# Altium footprint library MDBU017A.PcbLib: 30 footprints (part 2 of 2)
Each footprint in its own frame and in the unit in brackets; x right, y up, seen from the top. Pads: shape width x height; smd on the part's side, far side on the other; paste and mask are expansions set on the pad; w line width, h text height; cw(c..) or ccw(c..) is an arc to the next point about the centre after c.
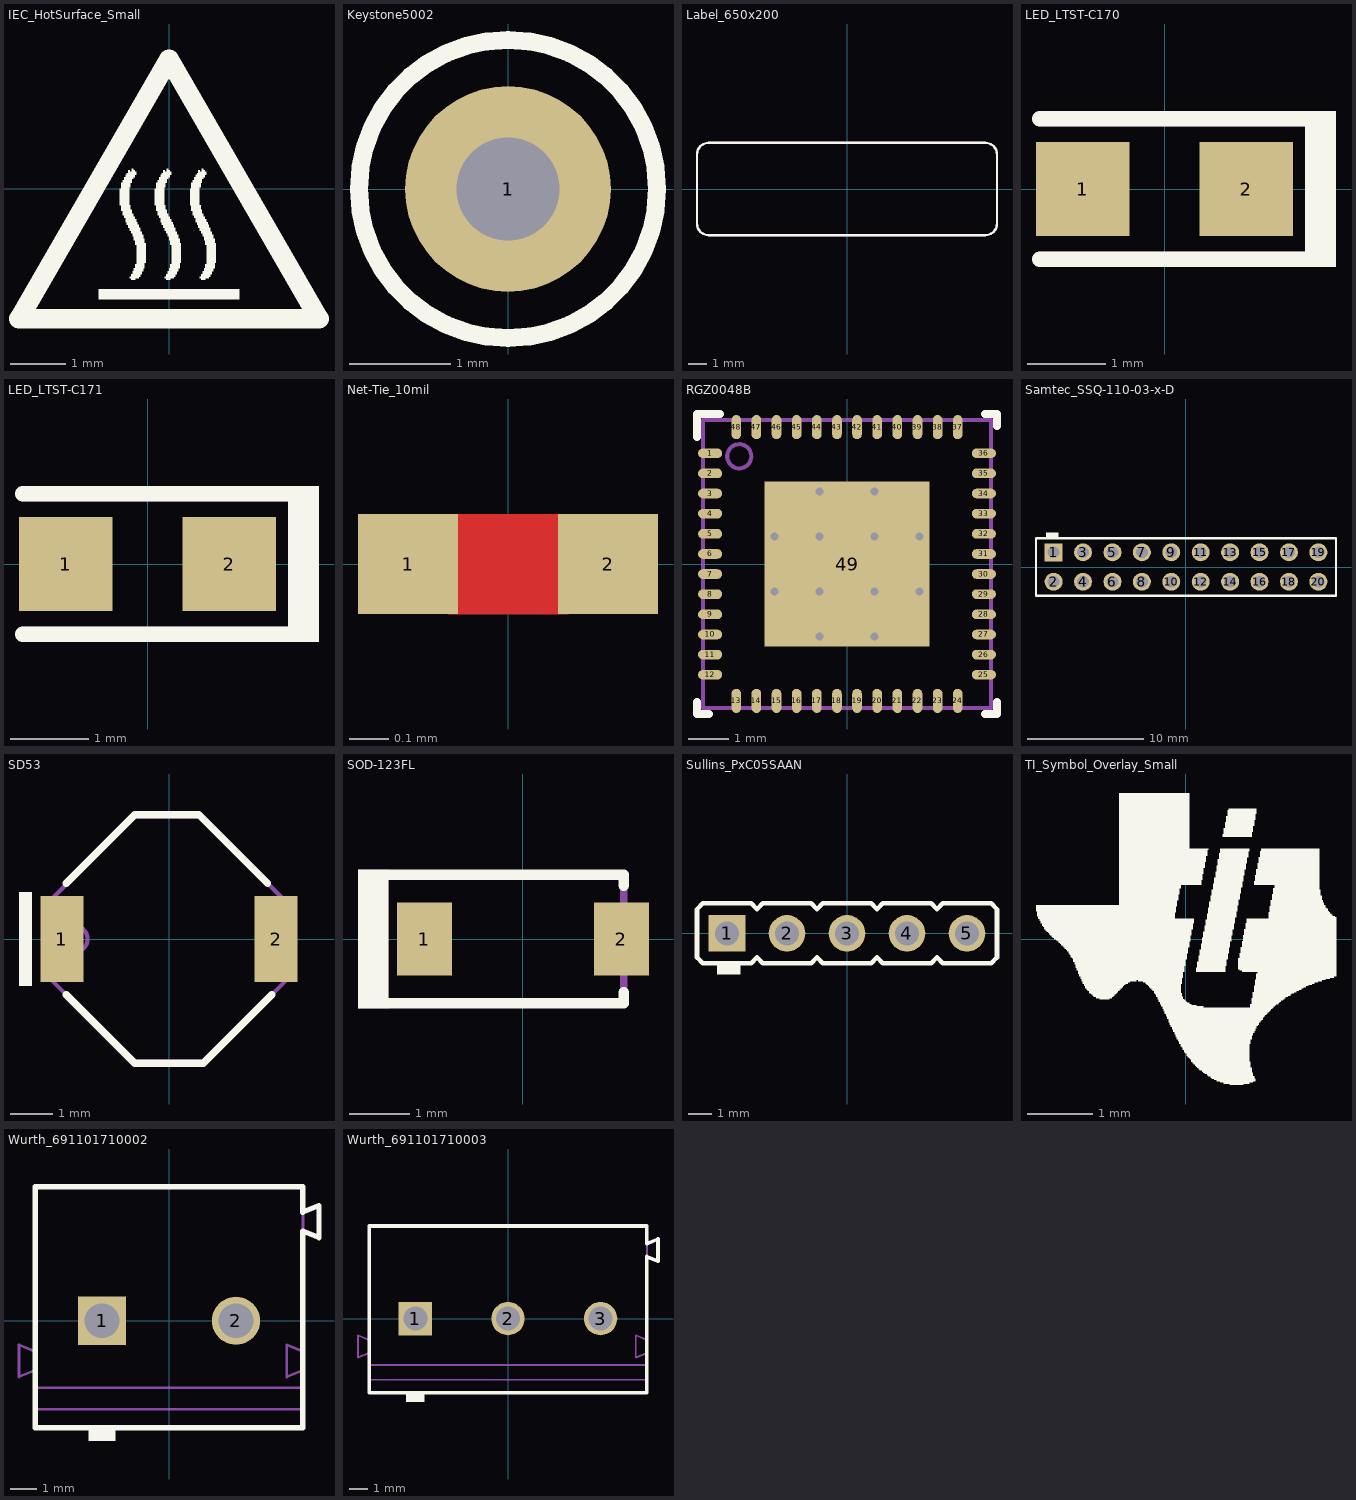
[diagram p1: the footprints below, top view; thin cyan lines are the x and y axes]

## IEC_HotSurface_Small [mm]
Top Overlay:
  drawing of 10 lines, arcs and shapes, not listed

## Keystone5002 [mil]
pads (1):
  round 80 hole 40: 1(0,0)
Top Overlay:
  circle w7: c0,0 r58
Mechanical 5:
  circle w5: c0,0 r58.31
  text ".Designator" at -45,-10 h30
3D body "Keystone_5002.stp": height 181.97, standoff -118.11, extent -49,-49 49.04,49.23

## Label_650x200 [mil]
pads (1):
  round 1 on Mech13: 0(0,0)
Top Overlay:
  lines w5: -325,-75 ccw(c-300,-75) -300,-100 300,-100 ccw(c300,-75) 325,-75 325,75 ccw(c300,75) 300,100 -300,100 ccw(c-300,75) -325,75 -325,-75
Mechanical 5:
  lines w5: -325,-75 ccw(c-300,-75) -300,-100 300,-100 ccw(c300,-75) 325,-75 325,75 ccw(c300,75) 300,100 -300,100 ccw(c-300,75) -325,75 -325,-75
  text ".Designator" at -60,-20 h40
3D body: height 1, standoff 0, extent -325.02,-100.02 325.02,100.02

## LED_LTST-C170 [mm]
pads (2):
  rect 1.2x1.2 smd: 1(-1.05,0) 2(1.05,0)
Top Overlay:
  rectangle: 1.8,-1 2.2,1
  lines w0.2: -1.6,-0.9 2.1,-0.9 ; -1.6,0.9 2.1,0.9
Mechanical 5:
  rectangle: 1.8,-1 2.2,1
  lines w0.2: -1.6,-0.9 2.1,-0.9 ; -1.6,0.9 2.1,0.9
  text ".Designator" at -1.4,-0.4 h0.76
3D body: height 0.5, standoff 0, extent -1.05,-0.675 1.05,0.675
3D body: height 1.1, standoff 0.5, extent -0.699,-0.624 0.699,0.624

## LED_LTST-C171 [mm]
pads (2):
  rect 1.2x1.2 smd: 1(-1.05,0) 2(1.05,0)
Top Overlay:
  rectangle: 1.8,-1 2.2,1
  lines w0.2: -1.6,-0.9 2.1,-0.9 ; -1.6,0.9 2.1,0.9
Mechanical 5:
  rectangle: 1.8,-1 2.2,1
  lines w0.2: -1.6,-0.9 2.1,-0.9 ; -1.6,0.9 2.1,0.9
  text ".Designator" at -1.4,-0.4 h0.76
3D body: height 0.3, standoff 0, extent -1.05,-0.675 1.05,0.675
3D body: height 0.8, standoff 0.3, extent -0.699,-0.624 0.699,0.624

## Net-Tie_10mil [mil]
pads (2):
  rect 10x10 smd paste-5 mask-5: 1(-10,0) 2(10,0)
Top Layer:
  region: -6,5 6,5 6,-5 -6,-5

## RGZ0048B [mm]
pads (49):
  oval 0.6x0.24 smd: 1(-3.4,2.75) 2(-3.4,2.25) 3(-3.4,1.75) 4(-3.4,1.25) 5(-3.4,0.75) 6(-3.4,0.25) 7(-3.4,-0.25) 8(-3.4,-0.75) 9(-3.4,-1.25) 10(-3.4,-1.75) 11(-3.4,-2.25) 12(-3.4,-2.75) 25(3.4,-2.75) 26(3.4,-2.25) 27(3.4,-1.75) 28(3.4,-1.25) 29(3.4,-0.75) 30(3.4,-0.25) 31(3.4,0.25) 32(3.4,0.75) 33(3.4,1.25) 34(3.4,1.75) 35(3.4,2.25) 36(3.4,2.75)
  oval 0.24x0.6 smd: 13(-2.75,-3.4) 14(-2.25,-3.4) 15(-1.75,-3.4) 16(-1.25,-3.4) 17(-0.75,-3.4) 18(-0.25,-3.4) 19(0.25,-3.4) 20(0.75,-3.4) 21(1.25,-3.4) 22(1.75,-3.4) 23(2.25,-3.4) 24(2.75,-3.4) 37(2.75,3.4) 38(2.25,3.4) 39(1.75,3.4) 40(1.25,3.4) 41(0.75,3.4) 42(0.25,3.4) 43(-0.25,3.4) 44(-0.75,3.4) 45(-1.25,3.4) 46(-1.75,3.4) 47(-2.25,3.4) 48(-2.75,3.4)
  rect 4.1x4.1 smd paste-2.575: 49(0,0)
via 0.679,0.679 diameter 0.5 hole 0.2
via 1.8,0.679 diameter 0.5 hole 0.2
via 0.679,1.8 diameter 0.5 hole 0.2
via 0.679,-1.8 diameter 0.5 hole 0.2
via 1.8,-0.679 diameter 0.5 hole 0.2
via 0.679,-0.679 diameter 0.5 hole 0.2
via -0.679,-1.8 diameter 0.5 hole 0.2
via -1.8,-0.679 diameter 0.5 hole 0.2
via -0.679,-0.679 diameter 0.5 hole 0.2
via -0.679,1.8 diameter 0.5 hole 0.2
via -1.8,0.679 diameter 0.5 hole 0.2
via -0.679,0.679 diameter 0.5 hole 0.2
Top Overlay:
  lines w0.2: -3.725,-3.425 -3.725,-3.725 -3.425,-3.725 ; -3.725,3.15 -3.725,3.725 -3.15,3.725 ; 3.425,-3.725 3.725,-3.725 3.725,-3.425 ; 3.425,3.725 3.725,3.725 3.725,3.425
Top Paste:
  rectangle: -0.579,-0.579 0.579,0.579
  rectangle: 0.778,-0.579 1.936,0.579
  region: -0.778,0.579 -1.936,0.579 -1.936,-0.579 -0.778,-0.579
  region: -0.778,1.936 -1.936,1.936 -1.936,0.778 -0.778,0.778
  rectangle: 0.778,0.778 1.936,1.936
  rectangle: -0.579,0.778 0.579,1.936
  rectangle: -0.579,-1.936 0.579,-0.778
  rectangle: 0.778,-1.936 1.936,-0.778
  region: -0.778,-0.778 -1.936,-0.778 -1.936,-1.936 -0.778,-1.936
Mechanical 5:
  circle w0.1: c-2.675,2.675 r0.3
  lines w0.1: -3.575,-3.575 3.575,-3.575 3.575,3.575 -3.575,3.575 -3.575,-3.575
  text ".Designator" at -1.854,-0.508 h1.02
3D body: height 1, standoff 0, extent -3.575,-3.575 3.575,3.575
3D body: height 1.01, standoff 0.5, extent -2.974,2.376 -2.376,2.974

## Samtec_SSQ-110-03-x-D [mm]
pads (20):
  rect 1.55x1.55 hole 1.02: 1(-11.43,1.27)
  round 1.55 hole 1.02: 2(-11.43,-1.27) 3(-8.89,1.27) 4(-8.89,-1.27) 5(-6.35,1.27) 6(-6.35,-1.27) 7(-3.81,1.27) 8(-3.81,-1.27) 9(-1.27,1.27) 10(-1.27,-1.27) 11(1.27,1.27) 12(1.27,-1.27) 13(3.81,1.27) 14(3.81,-1.27) 15(6.35,1.27) 16(6.35,-1.27) 17(8.89,1.27) 18(8.89,-1.27) 19(11.43,1.27) 20(11.43,-1.27)
Top Overlay:
  rectangle: -12.1,2.5 -11,3
  lines w0.2: -12.954,-2.476 -12.954,2.477 12.954,2.477 12.954,-2.476 -12.954,-2.476
Mechanical 5:
  lines w0.1: -12.954,-2.476 -12.954,2.477 12.954,2.477 12.954,-2.476 -12.954,-2.476
  text ".Designator" at -1.524,-0.508 h1.02
3D body "SSQ-110-03-T-D.stp": height 8.51, standoff -10.01, extent -12.954,-2.476 12.954,2.477

## SD53 [mm]
pads (2):
  rect 1x2 smd: 1(-2.5,0) 2(2.5,0)
Top Overlay:
  rectangle: -3.5,-1.1 -3.2,1.1
  lines w0.17: -2.4,-1.3 -0.8,-2.9 0.8,-2.9 2.4,-1.3 ; -2.4,1.3 -0.8,2.9 0.7,2.9 2.3,1.3
Mechanical 5:
  circle w0.1: c-2.2,0 r0.3
  lines w0.1: -2.86,-0.84 -0.84,-2.86 0.84,-2.86 2.86,-0.84 2.86,0.74 0.74,2.86 -0.811,2.86 -2.86,0.811 -2.86,-0.84
  text ".Designator" at -1.4,0.9 h1.02
3D body: height 3, standoff 0, extent -2.861,-2.861 2.861,2.861
3D body: height 3.01, standoff 2, extent -2.499,-0.299 -1.901,0.299

## SOD-123FL [mm]
pads (2):
  rect 0.915x1.22 smd: 1(-1.637,0) 2(1.637,0)
Top Overlay:
  rectangle: -2.743,-1.156 -2.235,1.156
  lines w0.178: -2.438,-1.067 1.676,-1.067 1.676,-0.889 ; -2.438,1.067 1.676,1.067 1.676,0.889
Mechanical 5:
  rectangle: -2.743,-1.156 -2.235,1.156
  lines w0.127: -2.438,-1.067 1.676,-1.067 1.676,1.067 -2.438,1.067
  text ".Designator" at -1.93,-0.229 h0.76
3D body "SOD-123FL.stp": height 1, standoff 0, extent -1.9,-0.9 1.9,0.9

## Sullins_PxC05SAAN [mm]
pads (5):
  rect 1.55x1.55 hole 1.016: 1(-5.08,0)
  round 1.55 hole 1.016: 2(-2.54,0) 3(0,0) 4(2.54,0) 5(5.08,0)
Top Overlay:
  rectangle: -5.5,-1.75 -4.5,-1.27
  lines w0.2: -6.35,-1.02 -6.35,1.02 -6.1,1.27 -4.06,1.27 -3.81,1.02 -3.56,1.27 -1.52,1.27 -1.27,1.02 -1.02,1.27 1.02,1.27 1.27,1.02 1.52,1.27 3.56,1.27 3.81,1.02 4.06,1.27 6.1,1.27 6.35,1.02 6.35,-1.02 6.1,-1.27 4.06,-1.27 3.81,-1.02 3.56,-1.27 1.52,-1.27 1.27,-1.02 1.02,-1.27 -1.02,-1.27 -1.27,-1.02 -1.52,-1.27 -3.56,-1.27 -3.81,-1.02 -4.06,-1.27 -6.1,-1.27 -6.35,-1.02
Mechanical 5:
  lines w0.1: -6.35,-1.02 -6.1,-1.27 -4.06,-1.27 -3.81,-1.02 -3.56,-1.27 -1.52,-1.27 -1.27,-1.02 -1.02,-1.27 1.02,-1.27 1.27,-1.02 1.52,-1.27 3.56,-1.27 3.81,-1.02 4.06,-1.27 6.1,-1.27 6.35,-1.02 6.35,1.02 6.1,1.27 4.06,1.27 3.81,1.02 3.56,1.27 1.52,1.27 1.27,1.02 1.02,1.27 -1.02,1.27 -1.27,1.02 -1.52,1.27 -3.56,1.27 -3.81,1.02 -4.06,1.27 -6.1,1.27 -6.35,1.02 -6.35,-1.02
  text ".Designator" at -2,-0.5 h1.02
3D body "PEC05SAAN.stp": height 5.84, standoff -3.05, extent -6.35,-1.27 6.35,1.27

## TI_Symbol_Overlay_Small [mm]
Top Overlay:
  drawing of 3 lines, arcs and shapes, not listed

## Wurth_691101710002 [mm]
pads (2):
  rect 1.8x1.8 hole 1.3: 1(-2.5,0)
  round 1.8 hole 1.3: 2(2.5,0)
Top Overlay:
  rectangle: -3,-4.5 -2,-4
  lines w0.2: -5,-4 -5,5 5,5 5,4.05 5.6,4.3 5.6,3.1 5,3.35 5,-4 -5,-4
Mechanical 5:
  lines w0.1: -5,-3.3 5,-3.3 ; -5,-2.5 5,-2.5 ; -5,-1.85 -5.6,-2.1 -5.6,-0.9 -5,-1.15 ; 5,-1.85 4.4,-2.1 4.4,-0.9 5,-1.15 ; 5,3.35 5.6,3.1 5.6,4.3 5,4.05 ; -5,-4 5,-4 5,5 -5,5 -5,-4
  text ".Designator" at -1.625,-0.4 h1.02
3D body "691101710002.stp": height 12.5, standoff -3.9, extent -5.6,-4 5.6,5

## Wurth_691101710003 [mm]
pads (3):
  rect 1.8x1.8 hole 1.3: 1(-5,0)
  round 1.8 hole 1.3: 2(0,0) 3(5,0)
Top Overlay:
  rectangle: -5.5,-4.5 -4.5,-4
  lines w0.2: -7.5,-4 -7.5,5 7.5,5 7.5,4.05 8.1,4.3 8.1,3.1 7.5,3.35 7.5,-4 -7.5,-4
Mechanical 5:
  lines w0.1: -7.5,-3.3 7.5,-3.3 ; -7.5,-2.5 7.5,-2.5 ; -7.5,-1.85 -8.1,-2.1 -8.1,-0.9 -7.5,-1.15 ; 7.5,-1.85 6.9,-2.1 6.9,-0.9 7.5,-1.15 ; 7.5,3.35 8.1,3.1 8.1,4.3 7.5,4.05 ; -7.5,-4 7.5,-4 7.5,5 -7.5,5 -7.5,-4
  text ".Designator" at -0.925,-0.45 h1.02
3D body "691101710003.stp": height 12.5, standoff -3.9, extent -8.1,-4 8.1,5